# Altium footprint library FootPrintLib_6.PcbLib: 588 footprints (part 8 of 37)
Each footprint in its own frame and in the unit in brackets; x right, y up, seen from the top. Pads: shape width x height; smd on the part's side, far side on the other; paste and mask are expansions set on the pad; w line width, h text height; cw(c..) or ccw(c..) is an arc to the next point about the centre after c.
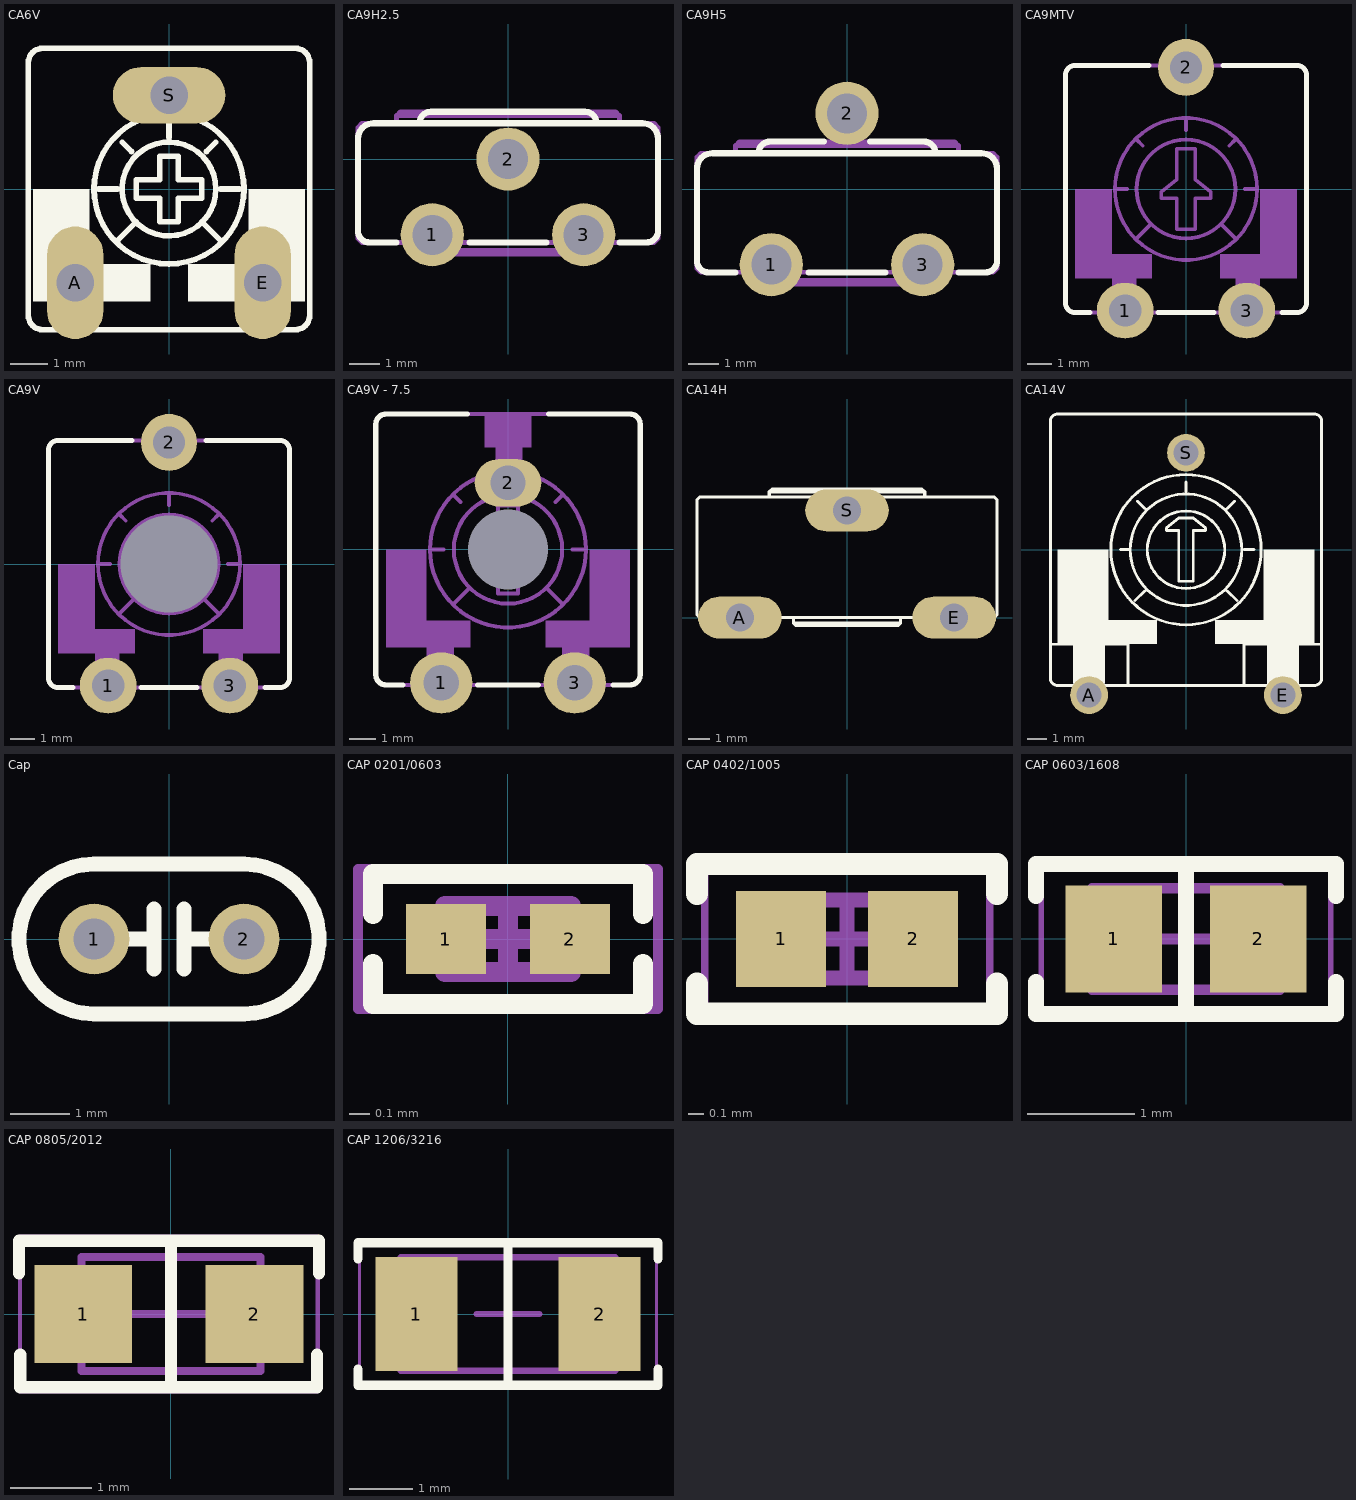
[diagram p7: the footprints below, top view; thin cyan lines are the x and y axes]

## CA6V [mil]
pads (3):
  oval 60x120 hole 40: A(-100,-100) E(100,-100)
  oval 120x60 hole 40: S(0,100)
Top Overlay:
  circle w6: c0,0 r80
  circle w6: c0,0 r50
  rectangle: 20,-120 145,-80
  rectangle: 85,-105 145,0
  rectangle: -145,-105 -85,0
  rectangle: -145,-120 -20,-80
  rectangle: 75,-150 125,-120
  rectangle: -125,-150 -75,-120
  lines w6: -75,0 -55,0 ; -55,-55 -35,-35 ; -50,50 -40,40 ; 0,55 0,75 ; 35,-35 55,-55 ; 40,40 50,50 ; 55,0 75,0 ; -150,-135 ccw(c-135,-135) -135,-150 -65,-150 65,-150 135,-150 ccw(c135,-135) 150,-135 150,-60 150,135 ccw(c135,135) 135,150 35,150 -35,150 -135,150 ccw(c-135,135) -150,135 -150,-60 -150,-135 ; -35,-10 -10,-10 -10,-35 10,-35 10,-10 35,-10 35,10 10,10 10,35 -10,35 -10,10 -35,10 -35,-10

## CA9H2.5 [mil]
pads (3):
  round 82 hole 52: 1(-98.43,-98.43) 2(0,0) 3(98.43,-98.43)
Top Overlay:
  lines w8: -145,-108.43 -180,-108.43 cw(c-180,-93.43) -195,-93.43 -195,26.57 cw(c-175,26.57) -175,46.57 -170,46.57 175,46.57 cw(c175,26.57) 195,26.57 195,-93.43 cw(c180,-93.43) 180,-108.43 145,-108.43 ; -115,46.57 cw(c-100,46.57) -100,61.57 100,61.57 cw(c100,46.57) 115,46.57 ; -50,-108.43 50,-108.43
Mechanical 1:
  lines w6: -145,46.57 145,46.57 ; -145,46.57 -190,46.57 -195,41.57 -195,-103.43 -190,-108.43 -160,-108.43 -100,-108.43 ; -145,46.57 -145,56.57 ; -145,56.57 145,56.57 ; -145,56.57 -140,61.57 140,61.57 145,56.57 ; -100,-118.43 -40,-118.43 40,-118.43 100,-118.43 ; -100,-118.43 -100,-108.43 ; -100,-118.43 -95,-123.43 -40,-123.43 40,-123.43 95,-123.43 100,-118.43 ; -100,-108.43 -40,-108.43 40,-108.43 100,-108.43 ; 100,-118.43 100,-108.43 ; 100,-108.43 160,-108.43 190,-108.43 195,-103.43 195,41.57 190,46.57 145,46.57 ; 145,46.57 145,56.57

## CA9H5 [mil]
pads (3):
  round 82 hole 52: 1(-98.43,-98.43) 2(0,98.43) 3(98.43,-98.43)
Top Overlay:
  lines w8: -145,-108.43 -180,-108.43 cw(c-180,-93.43) -195,-93.43 -195,26.57 cw(c-175,26.57) -175,46.57 -170,46.57 175,46.57 cw(c175,26.57) 195,26.57 195,-93.43 cw(c180,-93.43) 180,-108.43 145,-108.43 ; -115,46.57 cw(c-100,46.57) -100,61.57 -30,61.57 ; -50,-108.43 50,-108.43 ; 30,61.57 100,61.57 cw(c100,46.57) 115,46.57
Mechanical 1:
  lines w6: -145,46.57 -145,56.57 ; -145,46.57 -190,46.57 -195,41.57 -195,-103.43 -190,-108.43 -160,-108.43 -100,-108.43 ; -145,46.57 145,46.57 ; -145,56.57 -140,61.57 140,61.57 145,56.57 ; -145,56.57 145,56.57 ; -100,-118.43 -95,-123.43 -40,-123.43 40,-123.43 95,-123.43 100,-118.43 ; -100,-118.43 -100,-108.43 ; -100,-118.43 -40,-118.43 40,-118.43 100,-118.43 ; -100,-108.43 -40,-108.43 40,-108.43 100,-108.43 ; 100,-118.43 100,-108.43 ; 100,-108.43 160,-108.43 190,-108.43 195,-103.43 195,41.57 190,46.57 145,46.57 ; 145,46.57 145,56.57
3D body "SW3dPS-Trimpot Vertical.STEP": height 475.63, standoff -126.73, extent -193.85,-121.43 199.85,101.02

## CA9MTV [mil]
pads (3):
  oval 92x90 hole 52: 1(-98.43,-196.85) 3(98.43,-196.85)
  oval 90x92 hole 52: 2(0,196.85)
Top Overlay:
  lines w8: -155,-200 -180,-200 cw(c-180,-185) -195,-185 -195,185 cw(c-180,185) -180,200 -60,200 ; -45,-200 45,-200 ; 60,200 180,200 cw(c180,185) 195,185 195,-185 cw(c180,-185) 180,-200 155,-200
Mechanical 1:
  circle w6: c0,0 r115
  circle w6: c0,0 r80
  rectangle: -120,-215 -80,-145
  rectangle: -180,-145 -55,-105
  rectangle: -180,-105 -120,0
  rectangle: 120,-105 180,0
  rectangle: 55,-145 180,-105
  rectangle: 80,-215 120,-145
  rectangle: -20,200 20,215
  lines w6: -115,0 -95,0 ; -80,-80 -60,-60 ; -80,80 -70,70 ; 0,95 0,115 ; 60,-60 80,-80 ; 70,70 80,80 ; 95,0 115,0 ; -195,-185 ccw(c-180,-185) -180,-200 -155,-200 -45,-200 45,-200 155,-200 180,-200 ccw(c180,-185) 195,-185 195,185 ccw(c180,185) 180,200 60,200 -60,200 -180,200 ccw(c-180,185) -195,185 -195,-185 ; -40,-15 -40,-5 -15,15 -15,65 15,65 15,15 40,-5 40,-15 15,-15 15,-65 -15,-65 -15,-15 -40,-15
3D body "SW3dPS-Trimpot Horizontal.STEP": height 251.97, standoff -133.86, extent -196.85,-198.57 196.85,203

## CA9V [mil]
pads (4):
  oval 92x90 hole 52: 1(-98.43,-196.85) 3(98.43,-196.85)
  oval 90x92 hole 52: 2(0,196.85)
  round 0 hole 157.48: MH(0,0)
Top Overlay:
  lines w8: -155,-200 -180,-200 cw(c-180,-185) -195,-185 -195,185 cw(c-180,185) -180,200 -60,200 ; -45,-200 45,-200 ; 60,200 180,200 cw(c180,185) 195,185 195,-185 cw(c180,-185) 180,-200 155,-200
Mechanical 1:
  circle w6: c0,0 r115
  circle w6: c0,0 r80
  rectangle: -120,-215 -80,-145
  rectangle: -180,-145 -55,-105
  rectangle: -180,-105 -120,0
  rectangle: 120,-105 180,0
  rectangle: 55,-145 180,-105
  rectangle: 80,-215 120,-145
  rectangle: -20,200 20,215
  lines w6: -115,0 -95,0 ; -80,-80 -60,-60 ; -80,80 -70,70 ; 0,95 0,115 ; 60,-60 80,-80 ; 70,70 80,80 ; 95,0 115,0 ; -195,-185 ccw(c-180,-185) -180,-200 -155,-200 -45,-200 45,-200 155,-200 180,-200 ccw(c180,-185) 195,-185 195,185 ccw(c180,185) 180,200 60,200 -60,200 -180,200 ccw(c-180,185) -195,185 -195,-185 ; -40,-15 -40,-5 -15,15 -15,65 15,65 15,15 40,-5 40,-15 15,-15 15,-65 -15,-65 -15,-15 -40,-15
3D body "SW3dPS-Trimpot Horizontal.STEP": height 251.97, standoff -133.86, extent -196.85,-198.57 196.85,203

## CA9V - 7.5 [mm]
pads (4):
  oval 2.337x2.286 hole 1.321: 1(-2.5,-5) 3(2.5,-5)
  oval 2.5x1.778 hole 1.3: 2(0,2.5)
  round 0 hole 3: MH(0,0)
Top Overlay:
  lines w0.203: -3.937,-5.08 -4.572,-5.08 cw(c-4.572,-4.699) -4.953,-4.699 -4.953,4.699 cw(c-4.572,4.699) -4.572,5.08 -1.524,5.08 ; -1.143,-5.08 1.143,-5.08 ; 1.524,5.08 4.572,5.08 cw(c4.572,4.699) 4.953,4.699 4.953,-4.699 cw(c4.572,-4.699) 4.572,-5.08 3.937,-5.08
Mechanical 1:
  circle w0.152: c0,0 r2.921
  circle w0.152: c0,0 r2.032
  rectangle: -3.048,-5.461 -2.032,-3.683
  rectangle: -4.572,-3.683 -1.397,-2.667
  rectangle: -4.572,-2.667 -3.048,0
  rectangle: 3.048,-2.667 4.572,0
  rectangle: 1.397,-3.683 4.572,-2.667
  rectangle: 2.032,-5.461 3.048,-3.683
  rectangle: -0.468,2.039 0.548,3.817
  rectangle: -0.889,3.817 0.889,5.08
  lines w0.152: -2.921,0 -2.413,0 ; -2.032,-2.032 -1.524,-1.524 ; -2.032,2.032 -1.778,1.778 ; 0,2.413 0,2.921 ; 1.524,-1.524 2.032,-2.032 ; 1.778,1.778 2.032,2.032 ; 2.413,0 2.921,0 ; -4.953,-4.699 ccw(c-4.572,-4.699) -4.572,-5.08 -3.937,-5.08 -1.143,-5.08 1.143,-5.08 3.937,-5.08 4.572,-5.08 ccw(c4.572,-4.699) 4.953,-4.699 4.953,4.699 ccw(c4.572,4.699) 4.572,5.08 1.524,5.08 -1.524,5.08 -4.572,5.08 ccw(c-4.572,4.699) -4.953,4.699 -4.953,-4.699 ; -1.016,-0.381 -1.016,-0.127 -0.381,0.381 -0.381,1.651 0.381,1.651 0.381,0.381 1.016,-0.127 1.016,-0.381 0.381,-0.381 0.381,-1.651 -0.381,-1.651 -0.381,-0.381 -1.016,-0.381

## CA14H [mil]
pads (3):
  oval 156x78 hole 52: A(-200,0) E(200,0) S(0,200)
Top Overlay:
  lines w6: -145,225 -145,235 ; -145,225 -275,225 -280,220 -280,5 -275,0 -255,0 -145,0 -100,0 ; -145,225 -55,225 55,225 145,225 ; -145,235 -140,240 -40,240 40,240 140,240 145,235 ; -145,235 -45,235 45,235 145,235 ; -100,-10 -95,-15 95,-15 100,-10 ; -100,-10 -100,0 ; -100,-10 100,-10 ; -100,0 100,0 ; 100,-10 100,0 ; 100,0 145,0 255,0 275,0 280,5 280,220 275,225 145,225 ; 145,225 145,235

## CA14V [mil]
pads (3):
  round 78 hole 52: A(-200,-300) E(200,-300) S(0,200)
Top Overlay:
  circle w6: c0,0 r155
  circle w6: c0,0 r115
  circle w6: c0,0 r80
  rectangle: -230,-310 -170,-280
  rectangle: 170,-310 230,-280
  rectangle: -265,-145 -160,0
  rectangle: -265,-195 -60,-145
  rectangle: -230,-245 -170,-195
  rectangle: -230,-280 -170,-245
  rectangle: 160,-145 265,0
  rectangle: 60,-195 265,-145
  rectangle: 170,-245 230,-195
  rectangle: 170,-280 230,-245
  lines w6: -230,-275 -230,-245 ; -230,-250 -230,-195 -280,-195 ; -170,-275 -170,-245 -170,-195 -120,-195 -120,-280 ; -135,0 -115,0 ; -105,-105 -85,-85 ; -100,100 -85,85 ; 0,120 0,140 ; 85,-85 105,-105 ; 85,85 100,100 ; 120,0 140,0 ; -280,-195 -280,265 cw(c-265,265) -265,280 265,280 cw(c265,265) 280,265 280,-195 ; -280,-195 -280,-265 ccw(c-265,-265) -265,-280 -255,-280 -145,-280 -120,-280 ; -120,-280 120,-280 ; 120,-280 120,-195 170,-195 170,-250 170,-280 ; 120,-280 145,-280 170,-280 ; 170,-280 230,-280 ; 230,-280 230,-250 230,-195 280,-195 ; 230,-280 255,-280 265,-280 ccw(c265,-265) 280,-265 280,-195 ; -40,40 -40,45 -15,65 15,65 40,45 40,40 15,40 15,-65 -15,-65 -15,40 -40,40

## CA_Shaft 002 H [mm]
3D body: height 8, standoff 6.5, extent -5.75,-5.718 5.75,5.718
3D body: height 8.01, standoff 7.99, extent -0.635,3.175 0.635,5.08
3D body: height 8.01, standoff 6.49, extent -0.5,-1.5 0.5,1.5

## CA_Shaft 9041 H [mm]
3D body: height 8, standoff 6.5, extent -10.417,-10.479 10.5,10.479
3D body: height 8.01, standoff 7.99, extent -0.635,7.175 0.635,9.08

## Cap [mm]
pads (2):
  round 1.2 hole 0.7: 1(-1.27,0) 2(1.27,0)
Top Overlay:
  lines w0.254: -1.27,0 -0.254,0 ; -0.254,-0.508 -0.254,0.508 ; 0.254,-0.508 0.254,0.508 ; 0.254,0 1.27,0 ; -1.27,-1.27 cw(c-1.27,0) -1.27,1.27 1.27,1.27 cw(c1.27,0) 1.27,-1.27 -1.27,-1.27
3D body "SW3dPS-Cap 100n.STEP": height 6.42, standoff -1.5, extent -2.896,-0.838 2.943,0.858

## CAP 0201/0603 [mm] "Chip Capacitor, 2-Leads, Body 0.60x0.30mm, IPC Medium Density"
height 0.33
pads (2):
  rect 0.4x0.35 smd: 1(-0.31,0) 2(0.31,0)
Top Overlay:
  lines w0.1: -0.675,-0.125 -0.675,-0.325 0.675,-0.325 0.675,-0.125 ; -0.675,0.125 -0.675,0.325 0.675,0.325 0.675,0.125
Mechanical 13:
  lines w0.1: -0.315,-0.165 0.315,-0.165 0.315,0.165 -0.315,0.165 -0.315,-0.165
Mechanical 15:
  lines w0.05: -0.75,-0.35 0.75,-0.35 0.75,0.35 -0.75,0.35 -0.75,-0.35
  lines w0.1: -0.165,0 0.165,0 ; 0,-0.165 0,0.165
3D body "CAP 0201.STEP": height 0.3, standoff 0, extent -0.3,-0.15 0.3,0.15

## CAP 0402/1005 [mm] "Chip Capacitor, 2-Leads, Body 1.02x0.51mm, IPC Medium Density"
height 0.52
pads (2):
  rect 0.6x0.64 smd: 1(-0.44,0) 2(0.44,0)
Top Overlay:
  lines w0.15: -1,-0.3 -1,-0.5 1,-0.5 1,-0.3 ; -1,0.3 -1,0.5 1,0.5 1,0.3
Mechanical 13:
  lines w0.1: -0.515,-0.26 0.515,-0.26 0.515,0.26 -0.515,0.26 -0.515,-0.26
Mechanical 15:
  lines w0.05: -0.95,-0.5 0.95,-0.5 0.95,0.5 -0.95,0.5 -0.95,-0.5
  lines w0.1: -0.26,0 0.26,0 ; 0,-0.26 0,0.26
3D body "0402 cap.STEP": height 0.52, standoff 0, extent -0.5,-0.262 0.5,0.262

## CAP 0603/1608 [mm] "Chip Capacitor, 2-Leads, Body 1.60x0.80mm, IPC Medium Density"
height 0.89
pads (2):
  rect 0.9x1 smd: 1(-0.675,0) 2(0.675,0)
Top Overlay:
  lines w0.15: -1.4,-0.4 -1.4,-0.7 1.4,-0.7 1.4,-0.4 ; -1.4,0.4 -1.4,0.7 1.4,0.7 1.4,0.4 ; 0,-0.7 0,0.7
Mechanical 13:
  lines w0.1: -0.875,-0.475 0.875,-0.475 0.875,0.475 -0.875,0.475 -0.875,-0.475
Mechanical 15:
  lines w0.05: -1.35,-0.75 1.35,-0.75 1.35,0.75 -1.35,0.75 -1.35,-0.75
  lines w0.1: -0.475,0 0.475,0 ; 0,-0.475 0,0.475
3D body "0603 cap.STEP": height 0.82, standoff 0, extent -0.8,-0.412 0.8,0.412

## CAP 0805/2012 [mm] "Chip Capacitor, 2-Leads, Body 2.00x1.20mm, IPC Medium Density"
height 1.15
pads (2):
  rect 1.2x1.2 smd: 1(-1.075,0) 2(1.025,0)
Top Overlay:
  lines w0.15: -1.865,0.5 -1.865,0.9 1.816,0.9 1.816,0.5 ; -1.849,-0.5 -1.849,-0.9 1.79,-0.9 1.79,-0.5 ; 0,-0.9 0,0.9
Mechanical 13:
  lines w0.1: -1.1,-0.7 1.1,-0.7 1.1,0.7 -1.1,0.7 -1.1,-0.7
Mechanical 15:
  lines w0.05: -1.854,-0.95 1.801,-0.95 1.801,0.95 -1.854,0.95 -1.854,-0.95
  lines w0.1: -0.5,0 0.5,0 ; 0,-0.5 0,0.5
3D body "0805 cap.STEP": height 1.26, standoff -0.02, extent -1,-0.637 1,0.637

## CAP 1206/3216 [mm] "Chip Capacitor, 2-Leads, Body 3.25x1.60mm, IPC Medium Density"
height 1.6
pads (2):
  rect 1.3x1.8 smd: 1(-1.45,0) 2(1.45,0)
Top Overlay:
  lines w0.15: -2.375,-0.875 -2.375,-1.125 2.375,-1.125 2.375,-0.875 ; -2.375,0.875 -2.375,1.125 2.375,1.125 2.375,0.875 ; 0,-1.125 0,1.125
Mechanical 13:
  lines w0.1: -1.7,-0.9 1.7,-0.9 1.7,0.9 -1.7,0.9 -1.7,-0.9
Mechanical 15:
  lines w0.05: -2.35,-1.15 2.35,-1.15 2.35,1.15 -2.35,1.15 -2.35,-1.15
  lines w0.1: -0.5,0 0.5,0 ; 0,-0.5 0,0.5
3D body "1206 cap.STEP": height 1.62, standoff 0, extent -1.6,-0.812 1.6,0.812